# Altium footprint library SOD2412X80N.PcbLib: 1 footprints
Each footprint in its own frame and in the unit in brackets; x right, y up, seen from the top. Pads: shape width x height; smd on the part's side, far side on the other; paste and mask are expansions set on the pad; w line width, h text height; cw(c..) or ccw(c..) is an arc to the next point about the centre after c.
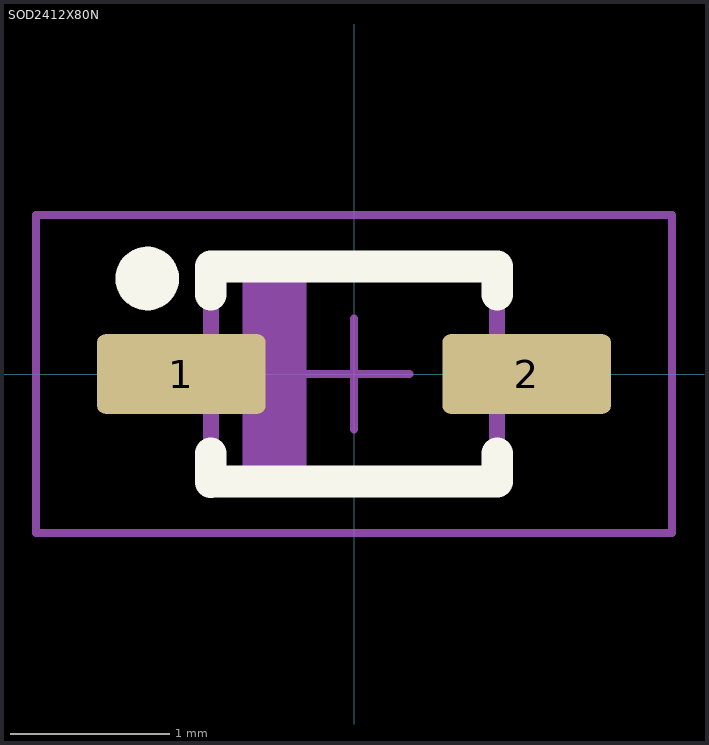
[diagram p0: the footprint, top view; thin cyan lines are the x and y axes]

## SOD2412X80N [mm]
height 0.8
pads (2):
  rrect20% 1.06x0.5 smd: 1(-1.085,0) 2(1.085,0)
Top Overlay:
  circle w0.2: c-1.3,0.6 r0.1
  lines w0.2: -0.9,-0.68 -0.9,-0.5 ; -0.9,-0.675 0.9,-0.675 0.9,-0.5 ; -0.9,0.5 -0.9,0.675 0.9,0.675 0.9,0.5
Top Assembly:
  rectangle: -0.7,-0.7 -0.3,0.675
  lines w0.1: -0.9,-0.2 -1.25,-0.2 -1.25,0.2 -0.9,0.2 ; 0.9,-0.2 1.25,-0.2 1.25,0.2 0.9,0.2 ; -0.9,-0.68 -0.9,0.675 -0.895,0.68 0.9,0.68 0.9,-0.68 -0.9,-0.68
Top Courtyard:
  lines w0.05: -2,-1 -2,1 2,1 2,-1 -2,-1
Top Designator:
  text ".Designator" at -0.9,-1.8 h1
Top Component Center:
  lines w0.05: -0.35,0 0.35,0 ; 0,-0.35 0,0.35
3D body "User Library-SOD323F.STEP": height 0.75, standoff -0.01, extent -1.4,-0.675 1.4,0.675